# Altium footprint library Harry_Potter_Transistors.PcbLib: 3 footprints
Each footprint in its own frame and in the unit in brackets; x right, y up, seen from the top. Pads: shape width x height; smd on the part's side, far side on the other; paste and mask are expansions set on the pad; w line width, h text height; cw(c..) or ccw(c..) is an arc to the next point about the centre after c.
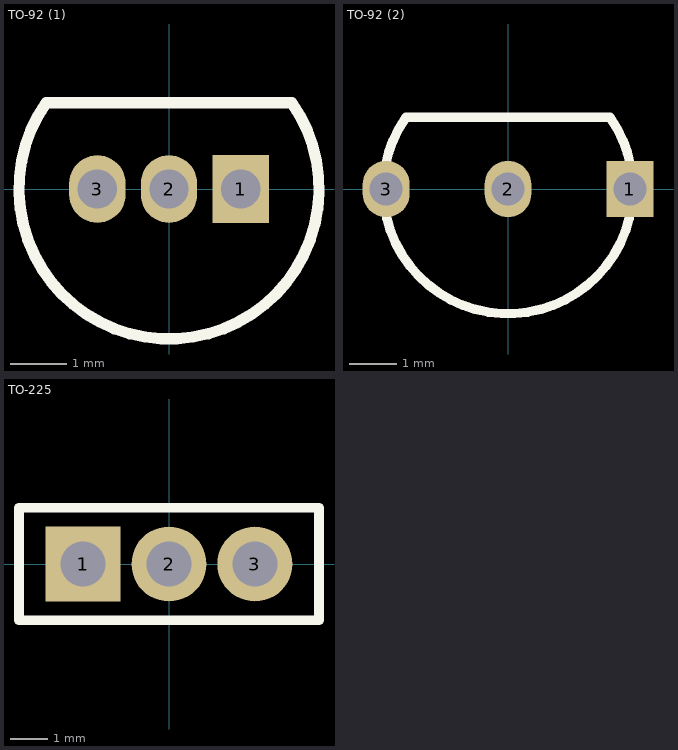
[diagram p0: the footprints below, top view; thin cyan lines are the x and y axes]

## TO-92 (1) [mm] "TSOP, 24-Leads, Body 7,80x4,40mm, Pitch 0,65mm, IPC Medium Density"
height 1.2
pads (3):
  rect 1x1.2 hole 0.7 mask+0.075: 1(1.27,0)
  oval 1x1.2 hole 0.7 mask+0.075: 2(0,0) 3(-1.27,0)
Top Overlay:
  lines w0.2: -2.176,1.53 ccw(c0,0) 2.176,1.53 -2.176,1.53
3D body "ALSRobot-TO-92A.step": height 8, standoff -3, extent -2.4,-2.4 2.4,1.53

## TO-92 (2) [mm] "TSOP, 24-Leads, Body 7,80x4,40mm, Pitch 0,65mm, IPC Medium Density"
height 1.2
pads (3):
  rect 1x1.2 hole 0.7 mask+0.075: 1(2.6,0)
  oval 1x1.2 hole 0.7 mask+0.075: 2(0,0) 3(-2.6,0)
Top Overlay:
  lines w0.2: -2.176,1.53 ccw(c0,0) 2.176,1.53 -2.176,1.53
3D body "ALSRobot-TO-92W.step": height 6.7, standoff -4.6, extent -2.765,-2.6 2.765,1.5

## TO-225 [mm] "TSOP, 24-Leads, Body 7,80x4,40mm, Pitch 0,65mm, IPC Medium Density"
height 1.2
pads (3):
  rect 2x2 hole 1.2 mask+0.075: 1(-2.29,0)
  round 2 hole 1.2 mask+0.075: 2(0,0) 3(2.29,0)
Top Overlay:
  lines w0.254: -4,-1.5 -4,1.5 0,1.5 4,1.5 4,-1.5 0,-1.5 -4,-1.5
3D body "User Library-BD135 (TO-126,SOT32) v4.step": height 15.6, standoff -2.35, extent -3.925,-1.775 3.875,0.925